# Altium footprint library ACS772-Hall_Effect_Sensor.PcbLib: 1 footprints
Each footprint in its own frame and in the unit in brackets; x right, y up, seen from the top. Pads: shape width x height; smd on the part's side, far side on the other; paste and mask are expansions set on the pad; w line width, h text height; cw(c..) or ccw(c..) is an arc to the next point about the centre after c.
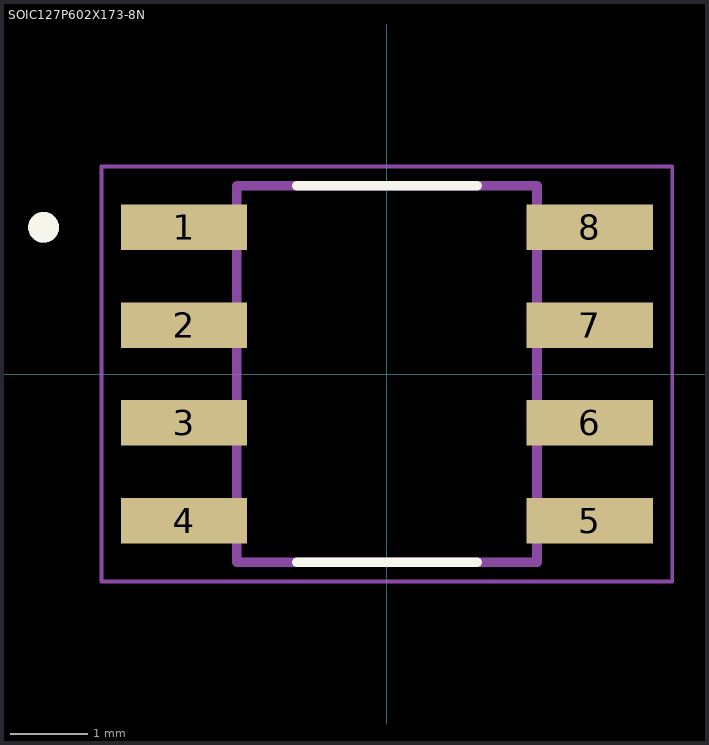
[diagram p0: the footprint, top view; thin cyan lines are the x and y axes]

## SOIC127P602X173-8N [mm]
height 1.73
pads (8):
  rect 1.64x0.59 smd: 1(-2.635,1.905) 2(-2.635,0.635) 3(-2.635,-0.635) 4(-2.635,-1.905) 5(2.635,-1.905) 6(2.635,-0.635) 7(2.635,0.635) 8(2.635,1.905)
Top Overlay:
  circle w0.2: c-4.46,1.905 r0.1
  lines w0.127: -1.17,-2.445 1.17,-2.445 ; -1.17,2.445 1.17,2.445
Mechanical 13:
  circle w0.2: c-4.46,1.905 r0.1
  lines w0.127: -1.95,-2.445 -1.95,2.445 1.95,2.445 1.95,-2.445 -1.95,-2.445
Mechanical 15:
  lines w0.05: -3.705,-2.695 -3.705,2.695 3.705,2.695 3.705,-2.695 -3.705,-2.695
3D body "step_temp.STEP": height 1.73, standoff 0, extent -3.01,-2.445 3.01,2.445